# EAGLE library part JS202011JCQN (library sjg-pixl)
Slide Switch DPDT Surface Mount Source: Datasheet <https://www.ckswitches.com/media/1422/js.pdf>
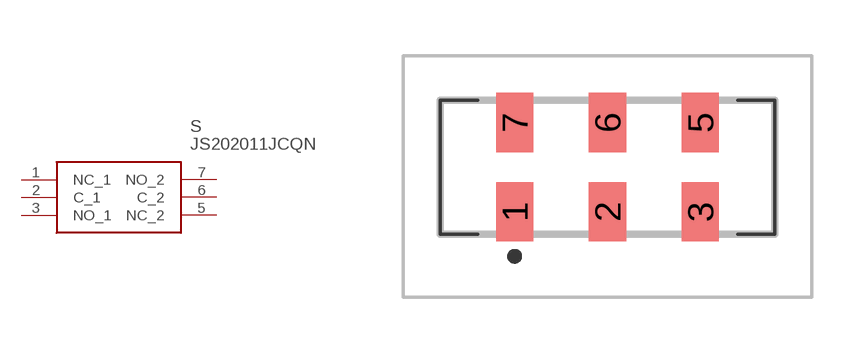
[diagram p10: symbol with the pads of JS202011JCQN; footprint JS202011JCQN]

Designator prefix S

## JS202011JCQN (ARROW_PART_NUMBER: JS202011JCQN; ARROW_PRICE-STOCK: https://www.arrow.com/en/products/js202011jcqn/ck; DESCRIPTION: Slide Switch DPDT Surface Mount; HEIGHT: 5mm; MANUFACTURER_NAME: C & K COMPONENTS; MANUFACTURER_PART_NUMBER: JS202011JCQN; MOUSER_PART_NUMBER: 611-JS202011JCQN; MOUSER_PRICE-STOCK: https://www.mouser.co.uk/ProductDetail/CK/JS202011JCQN?qs=74EMXstkWMXJzVJFnXPbEg%3D%3D)  [JS202011JCQN]
1  NC_1
2  C_1
3  NO_1
5  NC_2
6  C_2
7  NO_2

## Footprint JS202011JCQN (pad centres in mm)
JS202011JCQN
smd 1 x 1.6: 1 -2.5,-0.95; 2 0,-0.95; 3 2.5,-0.95; 5 2.5,1.45; 6 0,1.45; 7 -2.5,1.45